# Altium schematic symbol library Heat_Sink.SchLib: 2 symbols
Pins are listed as number, name and electrical type; pins without a type are passive.

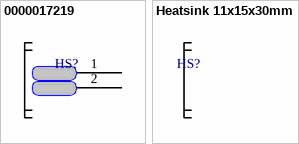
[diagram p0: symbols 0000017219 to Heatsink 11x15x30mm]

## 0000017219
designator HS?, comment Dissipador  (value not drawn)
DISSIPADOR MULTIWATT 0000017219; Manufacturer: 0000017219 -DISSITEC INDUSTRIA E CO; Mount Type: PTH
pins: 1, 2

## Heatsink 11x15x30mm
designator HS?, comment Dissipador  (value not drawn)
Heatsink 11x15x30mm; Mount Type: PTH; Manufacturer: *
footprint Dissipador 11x15x30mm